# Altium schematic symbol library Switch_Peregrine_PE42440.SchLib: 1 symbol
Pins are listed as number, name and electrical type; pins without a type are passive.

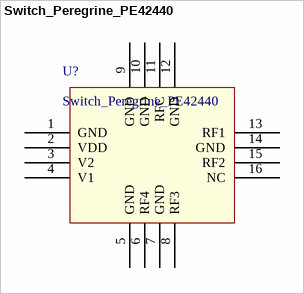
[diagram p0: symbol Switch_Peregrine_PE42440]

## Switch_Peregrine_PE42440
designator U?
SP4T UltraCMOS RF Switch, 50 - 3000 MHz, Isolation 34dB, Insertion loss 0.45 dB
pins: 1 GND (power), 2 VDD (power), 3 V2, 4 V1, 5 GND (power), 6 RF4, 7 GND (power), 8 RF3, 9 GND (power), 10 GND (power), 11 RFC, 12 GND (power), 13 RF1, 14 GND (power), 15 RF2, 16 NC